# Altium schematic symbol library 智能车主板.SchLib: 27 symbols
Pins are listed as number, name and electrical type; pins without a type are passive.

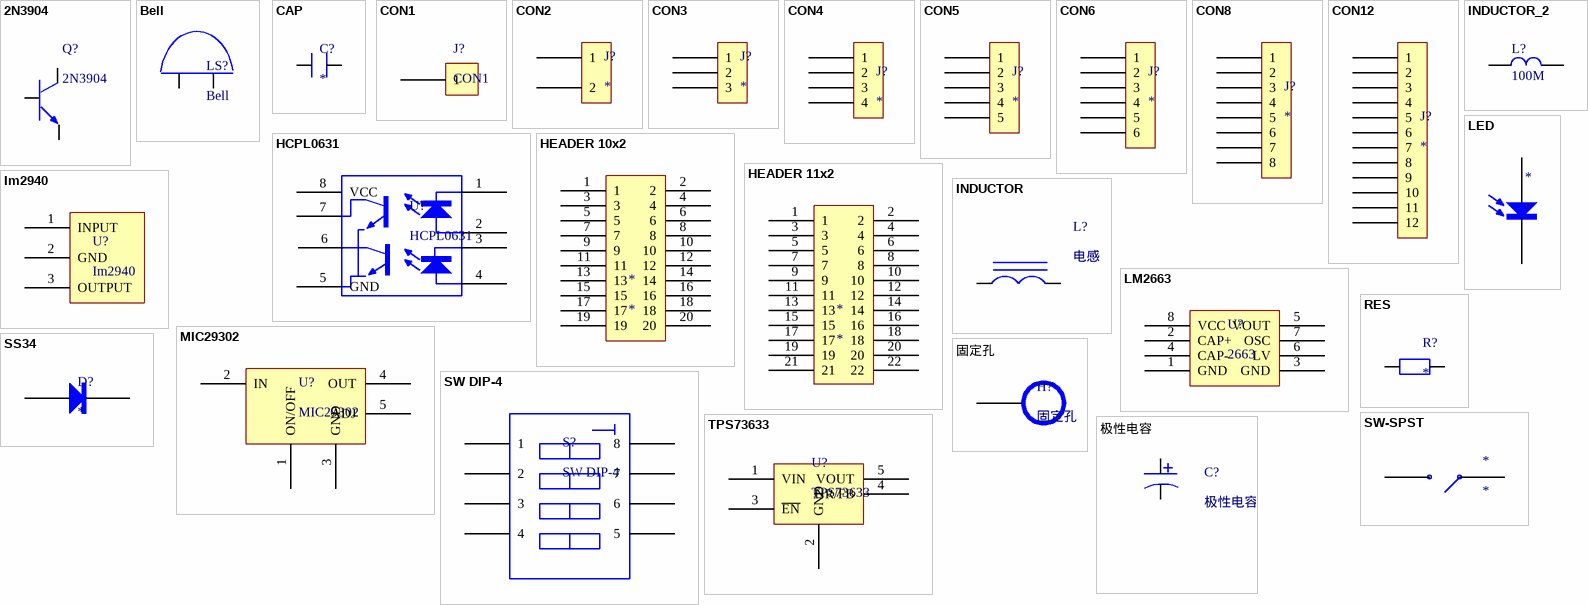
[diagram p0: symbols 2N3904 to 极性电容]

## 2N3904
designator Q?
NPN General Purpose Amplifier
footprint TO-92A (TO, Flat Index; 3 In-Line, Axial Leads; Body Dia. 4.5mm; Leads 0.51 x 0.48 mm (max))
pins: 1, 2, 3

## Bell
designator LS?
footprint 蜂鸣器侧装
pins: 1, 2

## CAP
designator C?
电容
footprint 0805C
pins: 1, 2

## CON1
designator J?
footprint 单面焊盘2*3MM_1PIN
pins: 1

## CON2
designator J?
footprint 2PIN杜邦插座_1.27mm
pins: 1, 2

## CON3
designator J?
footprint HDR1X3 (Connector; Header; 3 Position)
pins: 1, 2, 3

## CON4
designator J?
footprint HDR1X4 (Connector; Header; 4 Position)
pins: 1, 2, 3, 4

## CON5
designator J?
footprint HDR1X5 (Connector; Header; 5 Position)
pins: 1, 2, 3, 4, 5

## CON6
designator J?
footprint HDR2X3 (Connector; Header; 3x2 Position)
pins: 1, 2, 3, 4, 5, 6

## CON8
designator J?
footprint HDR2X4 (Connector; Header; 4x2 Position)
pins: 1, 2, 3, 4, 5, 6, 7, 8

## CON12
designator J?
footprint HDR2X6 (Connector; Header; 6x2 Position)
pins: 1, 2, 3, 4, 5, 6, 7, 8, 9, 10, 11, 12

## HCPL0631
designator U?
光耦
footprint SOP-8
pins: 1, 2, 3, 4, 5 GND, 6, 7, 8 VCC

## HEADER 10x2
designator *
排针
footprint HDR2X10 (Connector; Header; 10x2 Position)
pins: 1, 2, 3, 4, 5, 6, 7, 8, 9, 10, 11, 12, 13, 14, 15, 16, 17, 18, 19, 20

## HEADER 11x2
designator *
排针
footprint HDR2X11 (Connector; Header; 11x2 Position)
pins: 1, 2, 3, 4, 5, 6, 7, 8, 9, 10, 11, 12, 13, 14, 15, 16, 17, 18, 19, 20, 21, 22

## Im2940
designator U?
IC
footprint SOT-223
pins: 1 INPUT, 2 GND, 3 OUTPUT

## INDUCTOR
designator L?, comment 电感
footprint CDRH3D16_4.2*1.8
pins: 1, 2

## INDUCTOR_2
designator L?, comment 100M
footprint 0603L (Footprint not found)
pins: 1, 2

## LED
designator *
footprint 0805D
pins: 1, 2

## LM2663
designator U?, comment 2663
IC
footprint SOP-8
pins: 1 GND, 2 CAP+, 3 GND, 4 CAP-, 5 VOUT, 6 LV, 7 OSC, 8 VCC

## MIC29302
designator U?
IC
footprint TO_263_5(10.5*8.4mm) (D2-PAK, 6-Pads, Body 8.8x10.3mm (max), IPC Medium Density)
pins: 1 ON/OFF, 2 IN, 3 GND, 4 OUT, 5 ADJ

## RES
designator R?
电阻
footprint 0805_Res
pins: 1, 2

## SS34
designator D?
二极管
footprint SOD-123
pins: 1, 2

## SW DIP-4
designator S?
footprint 4路拨码开关
pins: 1, 2, 3, 4, 5, 6, 7, 8

## SW-SPST
designator *
footprint 开关
pins: 1, 2

## TPS73633
designator U?
IC
footprint SOT23_5-LEADS (SOT23, 5-Leads, Body 3.0x3.0mm (max), Pitch 0.95mm, IPC Low Density)
pins: 1 VIN, 2 GND, 3 ~{EN}, 4 NR/FB, 5 VOUT

## 固定孔
designator H?
footprint 铜柱孔3
pins: 11

## 极性电容
designator C?
footprint B型钽电容_3528_21 (Molded Capacitor, 2-Leads, Body 3.5x2.8mm, IPC Medium Density)
pins: 1, 2